# Altium footprint library PcbLib_Motorvermogen.PcbLib: 20 footprints (part 1 of 2)
Each footprint in its own frame and in the unit in brackets; x right, y up, seen from the top. Pads: shape width x height; smd on the part's side, far side on the other; paste and mask are expansions set on the pad; w line width, h text height; cw(c..) or ccw(c..) is an arc to the next point about the centre after c.
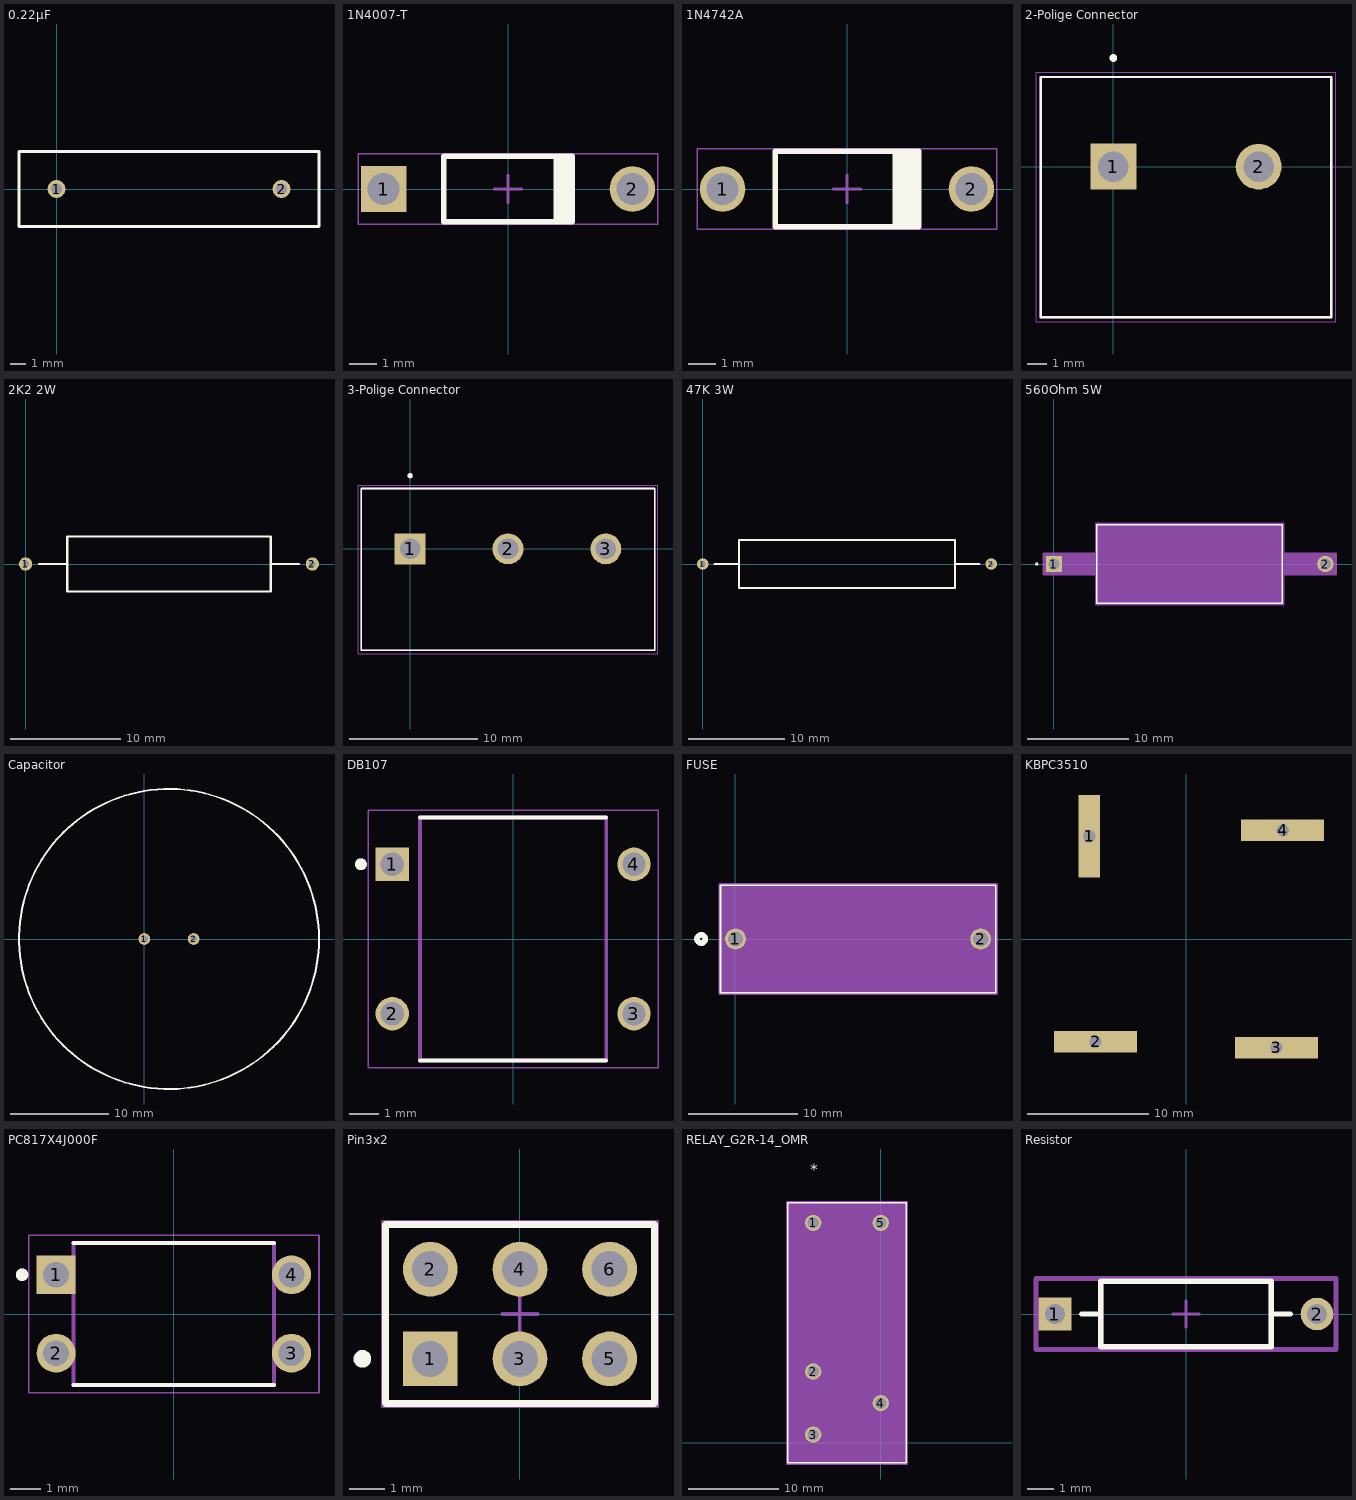
[diagram p0: the footprints below, top view; thin cyan lines are the x and y axes]

## 0.22µF [mm]
pads (2):
  round 1.2 hole 0.7: 1(0,0) 2(15,0)
Top Overlay:
  lines w0.2: -2.5,-2.5 -2.5,2.5 0,2.5 15,2.5 17.5,2.5 17.5,-2.5 15,-2.5 0,-2.5 -2.5,-2.5

## 1N4007-T [mm] "2-Leads, Axial Lead, Body 4.635x2.36mm, Pin Spacing 9mm"
height 2.36
pads (2):
  rect 1.65x1.65 hole 1.15: 1(-4.5,0)
  round 1.65 hole 1.15: 2(4.5,0)
Top Overlay:
  rectangle: 1.651,-1.18 2.317,1.18
  lines w0.2: -2.318,-1.18 2.318,-1.18 2.318,1.18 -2.318,1.18 -2.318,-1.18
Mechanical 13:
  lines w0.1: -2.318,-1.18 -2.318,1.18 2.318,1.18 2.318,-1.18 -2.318,-1.18
Mechanical 15:
  lines w0.05: -5.425,-1.28 5.425,-1.28 5.425,1.28 -5.425,1.28 -5.425,-1.28
  lines w0.1: -0.5,0 0.5,0 ; 0,-0.5 0,0.5
3D body: height 1.18, standoff -2, extent -4.929,-0.431 -4.068,0.431
3D body: height 1.61, standoff 0.75, extent -4.929,-0.43 -4.069,0.43
3D body: height 1.61, standoff 0.75, extent -4.499,-0.431 -2.317,0.431
3D body: height 1.61, standoff 0.75, extent 2.317,-0.431 4.499,0.431
3D body: height 1.61, standoff 0.75, extent 4.069,-0.43 4.929,0.43
3D body: height 1.18, standoff -2, extent 4.068,-0.431 4.929,0.431
3D body: height 2.35, standoff 0, extent -2.317,-1.18 2.317,1.175

## 1N4742A [mm] "2-Leads, Axial leaded, Body 2.72x5.2mm, Pin Spacing 9mm"
height 2.72
pads (2):
  round 1.65 hole 1.15: 1(-4.5,0) 2(4.5,0)
Top Overlay:
  rectangle: 1.651,-1.357 2.6,1.36
  lines w0.2: -2.6,-1.36 -2.6,1.36 2.6,1.36 2.6,-1.36 -2.6,-1.36
Mechanical 13:
  lines w0.1: -2.6,-1.36 2.6,-1.36 2.6,1.36 -2.6,1.36 -2.6,-1.36
Mechanical 15:
  lines w0.05: -5.425,-1.46 -5.425,1.46 5.425,1.46 5.425,-1.46 -5.425,-1.46
  lines w0.1: -0.5,0 0.5,0 ; 0,-0.5 0,0.5
3D body: height 1.36, standoff -2, extent 4.073,-0.429 4.93,0.429
3D body: height 1.79, standoff 0.93, extent 4.075,-0.428 4.93,0.428
3D body: height 2.71, standoff 0, extent -2.6,-1.357 2.6,1.357
3D body: height 1.79, standoff 0.93, extent 2.6,-0.429 4.5,0.429
3D body: height 1.79, standoff 0.93, extent -4.5,-0.429 -2.6,0.429
3D body: height 1.79, standoff 0.93, extent -4.93,-0.428 -4.075,0.428
3D body: height 1.36, standoff -2, extent -4.93,-0.429 -4.073,0.429

## 2-Polige Connector [mm]
pads (2):
  rect 2.4x2.4 / inner round 2.4 / far side rect 2.4x2.4 hole 1.6: 1(0,0)
  round 2.4 hole 1.6: 2(7.62,0)
Top Overlay:
  circle w0.2: c0,5.7 r0.1
  lines w0.127: -3.81,-7.9 -3.81,4.7 11.43,4.7 11.43,-7.9 -3.81,-7.9
Mechanical 13:
  circle w0.2: c0,5.7 r0.1
  lines w0.127: -3.81,-7.9 -3.81,4.7 11.43,4.7 11.43,-7.9 -3.81,-7.9
Mechanical 15:
  lines w0.05: -4.06,-8.15 11.68,-8.15 11.68,4.95 -4.06,4.95 -4.06,-8.15

## 2K2 2W [mm]
pads (2):
  round 1.2 hole 0.6: 1(0,0) 2(26,0)
Top Overlay:
  lines w0.2: 1.2,0 3.775,0 ; 22.225,0 24.8,0 ; 3.775,0 3.775,-2.5 22.225,-2.5 22.225,2.5 3.775,2.5 3.775,0

## 3-Polige Connector [mm]
pads (3):
  rect 2.4x2.4 / inner round 2.4 / far side rect 2.4x2.4 hole 1.6: 1(0,0)
  round 2.4 hole 1.6: 2(7.62,0) 3(15.24,0)
Top Overlay:
  circle w0.2: c0,5.7 r0.1
  lines w0.127: -3.81,-7.9 19.05,-7.9 19.05,4.7 -3.81,4.7 -3.81,-7.9
Mechanical 13:
  circle w0.2: c0,5.7 r0.1
  lines w0.127: -3.81,-7.9 19.05,-7.9 19.05,4.7 -3.81,4.7 -3.81,-7.9
Mechanical 15:
  lines w0.05: -4.06,-8.15 -4.06,4.95 19.3,4.95 19.3,-8.15 -4.06,-8.15

## 47K 3W [mm]
pads (2):
  round 1.2 hole 0.6: 1(0,0) 2(30,0)
Top Overlay:
  lines w0.2: 1.2,0 3.775,0 ; 26.225,0 28.8,0 ; 3.775,0 3.775,-2.5 26.225,-2.5 26.225,2.5 3.775,2.5 3.775,0

## 560Ohm 5W [mil]
pads (2):
  rect 63x63 / inner round 60 / far side rect 63x63 hole 43 paste-99999 mask+0: 1(0,0)
  round 63 / inner round 60 / far side round 63 hole 43 paste-99999 mask+0: 2(1053,0)
Top Overlay:
  circle w6: c-66.5,0 r3
  lines w6: 167,-152.5 167,152.5 886,152.5 886,-152.5 167,-152.5
Mechanical 13:
  circle w0: c182,0 r3
  lines w1: 0,0 172,0 ; 881,0 1053,0 ; 172,-147.5 172,147.5 881,147.5 881,-147.5 172,-147.5
Mechanical 15:
  region: 162,-41.5 -41.5,-41.5 -41.5,41.5 162,41.5 162,157.5 891,157.5 891,41.5 1094.5,41.5 1094.5,-41.5 891,-41.5 891,-157.5 162,-157.5
  lines w6: -41.5,-41.5 162,-41.5 162,-157.5 891,-157.5 891,-41.5 1094.5,-41.5 1094.5,41.5 891,41.5 891,157.5 162,157.5 162,41.5 -41.5,41.5 -41.5,-41.5
3D body "RES_AC05_VIS.step": height 295.04, standoff -100, extent -16.5,-147.37 1069.49,147.37

## Capacitor [mm]
pads (2):
  round 1.2 hole 0.7: 1(0,0) 2(5,0)
Top Overlay:
  circle w0.2: c2.5,0 r15.2

## DB107 [mm] "DB107"
pads (4):
  rect 1.14x1.14 hole 0.79: 1(-4.125,2.55)
  round 1.14 hole 0.79: 2(-4.125,-2.55) 3(4.125,-2.55) 4(4.125,2.55)
Top Overlay:
  circle w0.2: c-5.195,2.55 r0.1
  lines w0.127: -3.175,-4.15 3.175,-4.15 ; -3.175,4.15 3.175,4.15
Mechanical 13:
  circle w0.2: c-5.195,2.55 r0.1
  lines w0.127: -3.175,-4.15 -3.175,4.15 3.175,4.15 3.175,-4.15 -3.175,-4.15
Mechanical 15:
  lines w0.05: -4.945,-4.4 -4.945,4.4 4.945,4.4 4.945,-4.4 -4.945,-4.4

## FUSE [mil]
pads (2):
  round 75 / inner round 60 / far side round 75 hole 55 paste-99999 mask+0: 1(0,0) 2(885.83,0)
Top Overlay:
  circle w20: c-124.09,0 r15
  lines w6: -54.09,-194 -54.09,194 939.91,194 939.91,-194 -54.09,-194
Bottom Overlay:
  circle w20: c-124.09,0 r15
Mechanical 13:
  circle w20: c0,75 r15
  lines w1: -49.09,-189 -49.09,189 934.91,189 934.91,-189 -49.09,-189
Mechanical 15:
  region: 944.91,199 -59.09,199 -59.09,-199 944.91,-199
  lines w6: -59.09,-199 944.91,-199 944.91,199 -59.09,199 -59.09,-199

## KBPC3510 [mil]
pads (4):
  rect 70x270 hole 40 square mask+6: 1(-315,335)
  rect 270x70 hole 40 square mask+5: 2(-295,-335) 3(295,-354) 4(315,354)
Bottom Component Center:
  text "-" at 280,-299.99 h60
  text "~" at -315,-324.98 h60
  text "~" at 300,210.02 h60
  text "+" at -240,305 h60
  text "KBPC3510" at -220,-30 h60

## PC817X4J000F [mm] "Optocoupler"
pads (4):
  rect 1.26x1.26 / inner round 1.26 / far side rect 1.26x1.26 hole 0.84: 1(-3.81,1.27)
  round 1.26 hole 0.84: 2(-3.81,-1.27) 3(3.81,-1.27) 4(3.81,1.27)
Top Overlay:
  circle w0.2: c-4.91,1.27 r0.1
  lines w0.127: -3.25,-2.3 3.25,-2.3 ; -3.25,2.3 3.25,2.3
Mechanical 13:
  circle w0.2: c-4.91,1.27 r0.1
  lines w0.127: -3.25,-2.3 3.25,-2.3 3.25,2.3 -3.25,2.3 -3.25,-2.3
Mechanical 15:
  lines w0.05: -4.7,-2.55 4.7,-2.55 4.7,2.55 -4.7,2.55 -4.7,-2.55

## Pin3x2 [mm] "CONN, 6-Leads, Body 7.62x5.08mm, Pitch 2.54mm"
height 8.38
pads (6):
  rect 1.55x1.55 hole 1.02: 1(-2.54,-1.27)
  round 1.55 hole 1.02: 2(-2.54,1.27) 3(0,-1.27) 4(0,1.27) 5(2.54,-1.27) 6(2.54,1.27)
Top Overlay:
  circle w0.25: c-4.46,-1.27 r0.125
  lines w0.2: -3.81,-2.54 3.81,-2.54 3.81,2.54 -3.81,2.54 -3.81,-2.54
Mechanical 13:
  lines w0.1: -3.81,-2.54 3.81,-2.54 3.81,2.54 -3.81,2.54 -3.81,-2.54
Mechanical 15:
  lines w0.05: -3.91,-2.64 3.91,-2.64 3.91,2.64 -3.91,2.64 -3.91,-2.64
  lines w0.1: -0.5,0 0.5,0 ; 0,-0.5 0,0.5
3D body "TSW-103-08-L-D.stp": height 8.38, standoff -5.08, extent -3.81,-2.54 3.81,2.54

## RELAY_G2R-14_OMR [mil]
pads (5):
  round 71 / inner round 60 / far side round 71 hole 51 paste-99999 mask+0: 1(-295.28,960.63) 2(-295.28,311.02) 3(-295.28,35.43) 4(0,173.23) 5(0,960.63)
Top Overlay:
  lines w6: -406.57,-87.68 -406.57,1048.31 111.3,1048.31 111.3,-87.68 -406.57,-87.68
  text "*" at -307.78,1167.85 h50
Mechanical 13:
  lines w0: -159.64,1043.31 ccw(c-147.64,1043.31) -135.64,1043.31
  lines w1: -401.57,-82.68 -401.57,1043.31 106.3,1043.31 106.3,-82.68 -401.57,-82.68
  text "*" at -307.78,1002.49 h50
Mechanical 15:
  region: 106.3,-82.68 -401.57,-82.68 -401.57,1043.31 106.3,1043.31
  region: 116.3,-92.68 -411.57,-92.68 -411.57,1053.31 116.3,1053.31
  lines w6: -411.57,-92.68 116.3,-92.68 116.3,1053.31 -411.57,1053.31 -411.57,-92.68

## Resistor [mm]
pads (2):
  rect 1.25x1.25 hole 0.75 paste-2539.97 mask+0: 1(-5,0)
  round 1.25 hole 0.75 paste-2539.97 mask+0: 2(5,0)
Top Overlay:
  lines w0.2: -3.975,0 -3.25,0 ; 3.25,0 3.975,0 ; -3.25,-1.25 3.25,-1.25 3.25,1.25 -3.25,1.25 -3.25,-1.25
Top 3D Body:
  lines w0.2: -3.25,-1.25 3.25,-1.25 3.25,1.25 -3.25,1.25 -3.25,-1.25
Top Courtyard:
  lines w0.2: -5.725,-1.35 5.725,-1.35 5.725,1.35 -5.725,1.35 -5.725,-1.35
Top Assembly:
  lines w0.2: -5.725,-1.35 5.725,-1.35 5.725,1.35 -5.725,1.35 -5.725,-1.35
  text ".Designator" at 0,0.188 h1
Top Component Center:
  lines w0.1: -0.5,0 0.5,0 ; 0,-0.5 0,0.5
3D body "Res_Vishay_MRS25000C1910FCT00_eec.STEP": height 0.25, standoff 0, extent -5.725,-1.35 5.725,1.35